# EAGLE library part SN65HVD23X (library dawidkulpa_dev)
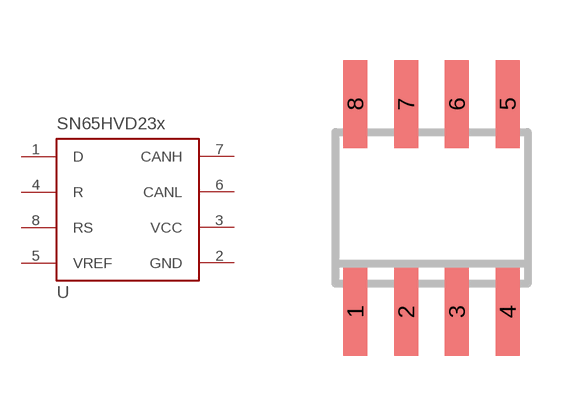
[diagram p32: symbol with the pads of SOIC8; footprint SOIC8]

Designator prefix -

## SN65HVD23X  [SOIC8]
1  D
2  GND
3  VCC
4  R
5  VREF
6  CANL
7  CANH
8  RS

## Footprint SOIC8 (pad centres in mm)
Small Outline IC
smd 0.6 x 2.2: 1 -1.905,-2.6; 2 -0.635,-2.6; 3 0.635,-2.6; 4 1.905,-2.6; 5 1.905,2.6; 6 0.635,2.6; 7 -0.635,2.6; 8 -1.905,2.6